# Altium footprint library PcbLib1.PcbLib: 98 footprints (part 3 of 7)
Each footprint in its own frame and in the unit in brackets; x right, y up, seen from the top. Pads: shape width x height; smd on the part's side, far side on the other; paste and mask are expansions set on the pad; w line width, h text height; cw(c..) or ccw(c..) is an arc to the next point about the centre after c.
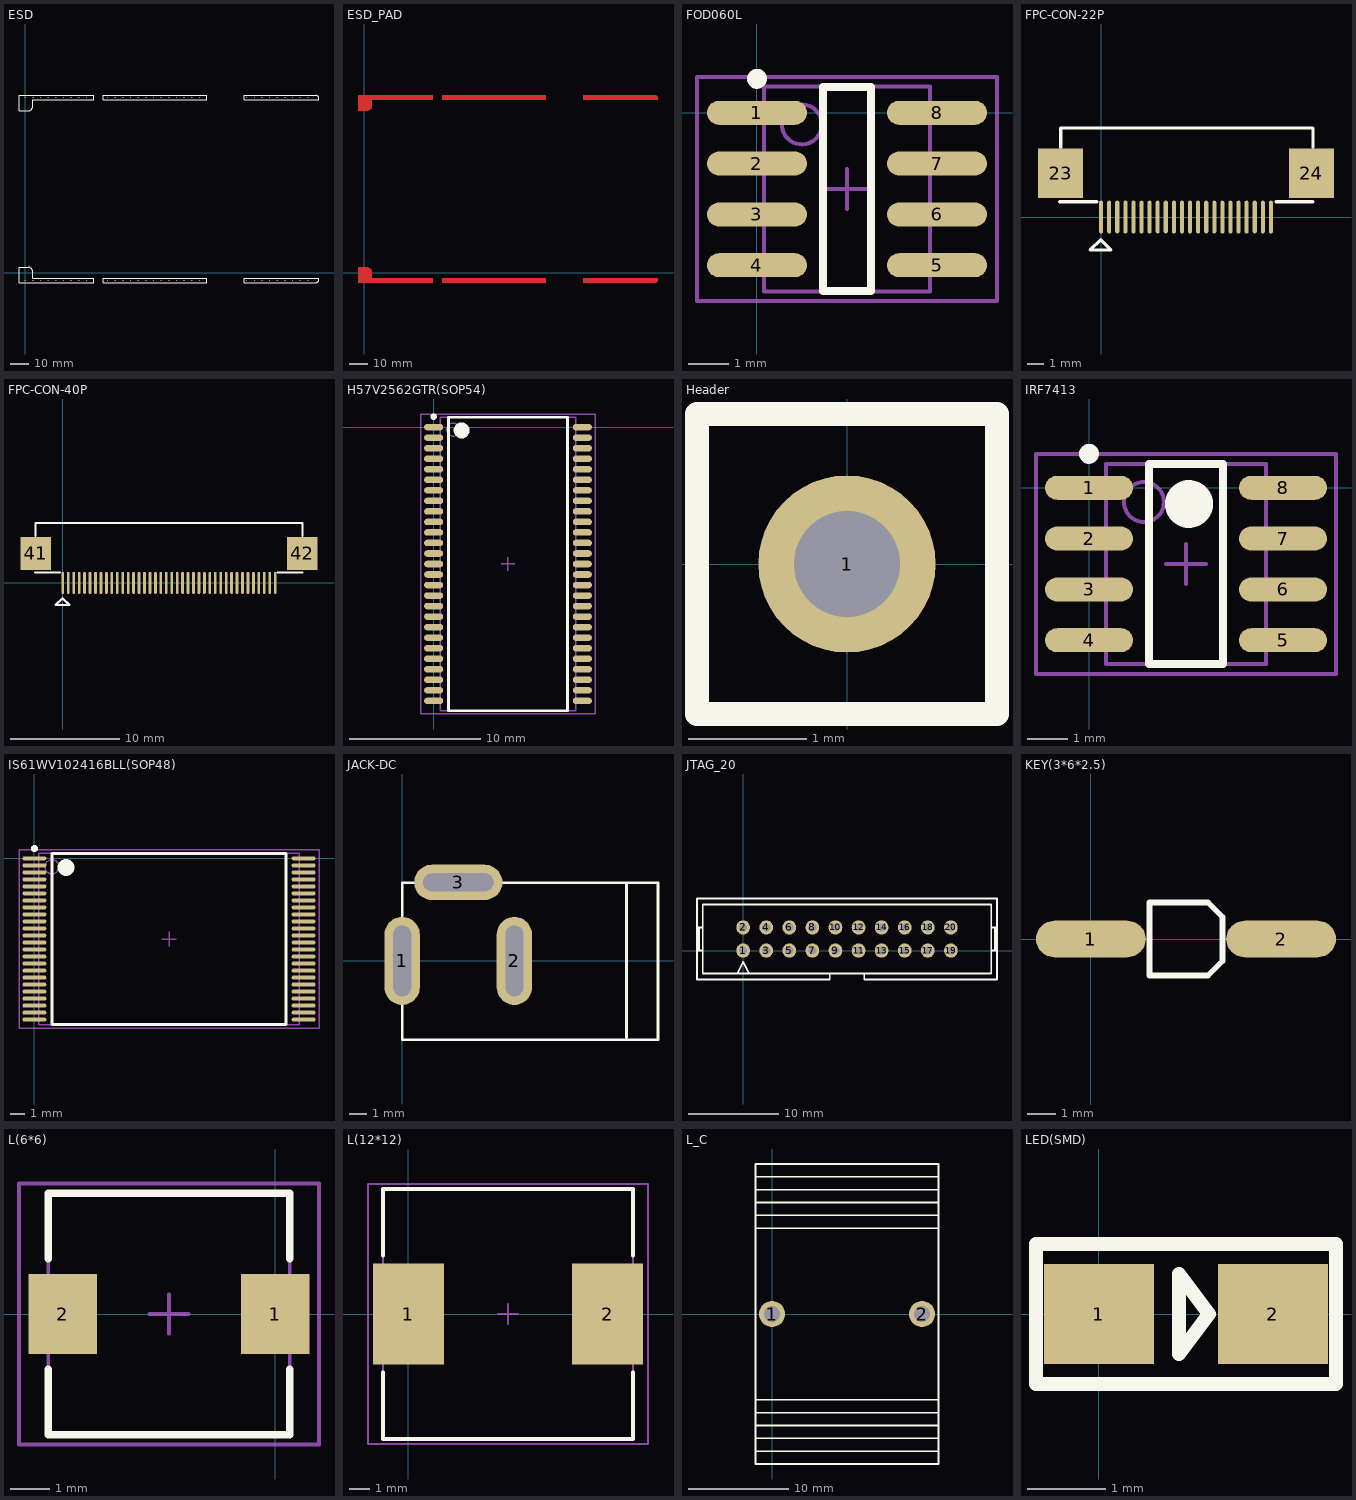
[diagram p2: the footprints below, top view; thin cyan lines are the x and y axes]

## ESD [mil]
pads (62):
  round 12 hole 8: 1(4635,-165) 1(4795,-165) 1(4955,-165) 1(5115,-165) 1(5275,-165) 1(5435,-165) 1(5595,-165) 1(5755,-165) 1(5915,-165) 2(1725,-165) 2(1885,-165) 2(2045,-165) 2(2205,-165) 2(2365,-165) 2(2525,-165) 2(2685,-165) 2(2845,-165) 2(3005,-165) 2(3165,-165) 2(3325,-165) 2(3485,-165) 2(3645,-165) 3(0,-165) 3(160,-165) 3(320,-165) 3(480,-165) 3(640,-165) 3(800,-165) 3(960,-165) 3(1120,-165) 3(1280,-165) 4(4635,3665) 4(4795,3665) 4(4955,3665) 4(5115,3665) 4(5275,3665) 4(5435,3665) 4(5595,3665) 4(5755,3665) 4(5915,3665) 5(1725,3665) 5(1885,3665) 5(2045,3665) 5(2205,3665) 5(2365,3665) 5(2525,3665) 5(2685,3665) 5(2845,3665) 5(3005,3665) 5(3165,3665) 5(3325,3665) 5(3485,3665) 5(3645,3665) 6(0,3665) 6(160,3665) 6(320,3665) 6(480,3665) 6(640,3665) 6(800,3665) 6(960,3665) 6(1120,3665) 6(1280,3665)
Top Overlay:
  lines w10: -130.71,-208.66 -130.71,112.05 59.45,112.05 cw(c59.06,12.44) 158.66,12.05 158.66,-120.08 1434.25,-120.08 1434.25,-208.5 ; -130.71,3708.66 -130.71,3387.95 59.45,3387.95 ccw(c59.06,3487.56) 158.66,3487.95 158.66,3620.08 1434.25,3620.08 1434.25,3708.5 ; -130.55,-208.66 1434.09,-208.66 ; -130.55,3708.66 1434.09,3708.66 ; 1631.1,-208.66 1631.1,-120.08 3796.46,-120.08 3796.46,-208.66 1631.1,-208.66 ; 1631.1,3620.08 1631.1,3708.66 3796.46,3708.66 3796.46,3620.08 1631.1,3620.08 ; 4583.86,-208.66 4583.86,-120.08 6148.82,-120.08 6148.82,-139.76 cw(c6079.92,-139.76) 6079.92,-208.66 4583.86,-208.66 ; 4583.86,3620.08 6148.82,3620.08 6148.82,3639.76 ccw(c6079.92,3639.76) 6079.92,3708.66 4583.86,3708.66 4583.86,3620.08

## ESD_PAD [mm]
Top Layer:
  region: 116.43,-5.3 116.43,-3.05 156.18,-3.05 156.188,-3.55 156.155,-3.893 156.055,-4.223 155.892,-4.527 155.673,-4.793 155.407,-5.012 155.103,-5.175 154.773,-5.275 154.43,-5.308 154.43,-5.3
  region: 41.43,-5.3 41.43,-3.05 96.43,-3.05 96.43,-5.3
  region: 4.03,-3.05 4.041,0.306 4.042,0.316 3.993,0.812 3.849,1.289 3.614,1.728 3.298,2.114 2.912,2.43 2.473,2.665 1.996,2.809 1.51,2.857 1.51,2.846 -3.32,2.846 -3.32,-5.3 36.426,-5.3 36.43,-5.296 36.43,-3.05
  region: 116.43,91.95 156.18,91.95 156.188,92.45 156.155,92.793 156.055,93.123 155.892,93.427 155.673,93.693 155.407,93.912 155.103,94.075 154.773,94.175 154.43,94.208 154.43,94.2 116.43,94.2
  region: 41.43,91.95 41.43,94.2 96.43,94.2 96.43,91.95
  region: -3.32,86.054 -3.32,94.2 36.426,94.2 36.43,94.196 36.43,91.95 4.03,91.95 4.041,88.594 4.042,88.584 3.993,88.088 3.849,87.611 3.614,87.172 3.298,86.786 2.912,86.47 2.473,86.235 1.996,86.091 1.51,86.043 1.51,86.054
Bottom Layer:
  region: -3.32,86.054 1.51,86.043 1.996,86.091 2.473,86.235 2.912,86.47 3.298,86.786 3.614,87.172 3.849,87.611 3.993,88.088 4.042,88.584 4.041,88.594 4.03,88.594 4.03,91.95 36.43,91.95 36.43,94.196 36.426,94.2 -3.32,94.2
  region: 41.43,91.95 96.43,91.95 96.43,94.2 41.43,94.2
  region: 116.43,91.95 156.18,91.95 156.188,92.45 156.155,92.793 156.055,93.123 155.892,93.427 155.673,93.693 155.407,93.912 155.103,94.075 154.773,94.175 154.43,94.208 154.43,94.2 116.43,94.2
  region: -3.316,-5.3 36.426,-5.3 36.43,-5.296 36.43,-3.05 4.03,-3.05 4.041,0.306 4.042,0.316 3.993,0.812 3.849,1.289 3.614,1.728 3.298,2.114 2.912,2.43 2.473,2.665 1.996,2.809 1.51,2.857 1.51,2.846 -3.32,2.846
  region: 116.43,-5.3 154.43,-5.308 154.773,-5.275 155.103,-5.175 155.407,-5.012 155.673,-4.793 155.892,-4.527 156.055,-4.223 156.155,-3.893 156.188,-3.55 156.18,-3.55 156.18,-3.05 116.43,-3.05
  region: 41.43,-5.3 41.43,-3.05 96.43,-3.05 96.43,-5.3
Top Solder:
  region: -3.32,-5.3 -3.32,2.846 1.51,2.857 1.996,2.809 2.473,2.665 2.912,2.43 3.298,2.114 3.614,1.728 3.849,1.289 3.993,0.812 4.042,0.316 4.041,0.306 4.03,0.306 4.03,-3.05 36.43,-3.05 36.43,-5.296 36.426,-5.3
  region: -3.32,86.054 1.51,86.043 1.996,86.091 2.473,86.235 2.912,86.47 3.298,86.786 3.614,87.172 3.849,87.611 3.993,88.088 4.042,88.584 4.041,88.594 4.03,88.594 4.03,91.95 36.43,91.95 36.43,94.196 36.426,94.2 -3.32,94.2
  region: 41.43,91.95 96.43,91.95 96.43,94.2 41.43,94.2
  region: 116.43,91.95 156.18,91.95 156.188,92.45 156.155,92.793 156.055,93.123 155.892,93.427 155.673,93.693 155.407,93.912 155.103,94.075 154.773,94.175 154.43,94.208 154.43,94.2 116.43,94.2
  region: 116.43,-5.3 154.43,-5.308 154.773,-5.275 155.103,-5.175 155.407,-5.012 155.673,-4.793 155.892,-4.527 156.055,-4.223 156.155,-3.893 156.188,-3.55 156.18,-3.55 156.18,-3.05 116.43,-3.05
  region: 41.43,-5.3 96.43,-5.3 96.43,-3.05 41.43,-3.05
Bottom Solder:
  region: -3.32,86.054 1.51,86.043 1.996,86.091 2.473,86.235 2.912,86.47 3.298,86.786 3.614,87.172 3.849,87.611 3.993,88.088 4.042,88.584 4.041,88.594 4.03,88.594 4.03,91.95 36.43,91.95 36.43,94.196 36.426,94.2 -3.32,94.2
  region: 41.43,91.95 96.43,91.95 96.43,94.2 41.43,94.2
  region: 116.43,91.95 156.18,91.95 156.188,92.45 156.155,92.793 156.055,93.123 155.892,93.427 155.673,93.693 155.407,93.912 155.103,94.075 154.773,94.175 154.43,94.208 154.43,94.2 116.43,94.2
  region: 116.43,-5.3 154.43,-5.308 154.773,-5.275 155.103,-5.175 155.407,-5.012 155.673,-4.793 155.892,-4.527 156.055,-4.223 156.155,-3.893 156.188,-3.55 156.18,-3.55 156.18,-3.05 116.43,-3.05
  region: 41.43,-5.3 96.43,-5.3 96.43,-3.05 41.43,-3.05
  region: -3.316,-5.3 36.426,-5.3 36.43,-5.296 36.43,-3.05 4.03,-3.05 4.041,0.306 4.042,0.316 3.993,0.812 3.849,1.289 3.614,1.728 3.298,2.114 2.912,2.43 2.473,2.665 1.996,2.809 1.51,2.857 1.51,2.846 -3.32,2.846

## FOD060L [mm] "SOIC, 8-Leads, Body 5.1x4.2mm (max), Pitch 1.27mm, IPC Medium Density"
height 3.63
pads (8):
  oval 2.5x0.6 smd: 1(0,0) 2(0,-1.27) 3(0,-2.54) 4(0,-3.81) 5(4.5,-3.81) 6(4.5,-2.54) 7(4.5,-1.27) 8(4.5,0)
Top Overlay:
  circle w0.25: c0,0.85 r0.125
  lines w0.2: 1.65,-4.455 1.65,0.645 2.85,0.645 2.85,-4.455 1.65,-4.455
Mechanical 13:
  circle w0.1: c1.12,-0.29 r0.5
  lines w0.1: 0.17,-4.47 0.17,0.66 4.33,0.66 4.33,-4.47 0.17,-4.47
Mechanical 15:
  lines w0.1: 1.75,-1.905 2.75,-1.905 ; 2.25,-2.405 2.25,-1.405 ; -1.5,-4.705 -1.5,0.895 6,0.895 6,-4.705 -1.5,-4.705
3D body: height 3.63, standoff 0.16, extent 0.17,-4.47 4.33,0.66

## FPC-CON-22P [mil]
pads (24):
  oval 10x80 smd: 1(0,0) 2(19.68,0) 3(39.37,0) 4(59.05,0) 5(78.74,0) 6(98.42,0) 7(118.11,0) 8(137.79,0) 9(157.48,0) 10(177.16,0) 11(196.85,0) 12(216.53,0) 13(236.22,0) 14(255.91,0) 15(275.59,0) 16(295.27,0) 17(314.96,0) 18(334.64,0) 19(354.33,0) 20(374.01,0) 21(393.7,0) 22(413.39,0)
  rect 110x120 smd: 23(-98.42,106.3) 24(511.81,106.3)
Top Overlay:
  lines w7.87: -100.39,37.4 -9.84,37.4 ; -98.42,169.29 -98.42,216.53 516.14,216.53 516.14,169.29 ; 425.59,37.4 516.14,37.4 ; -26.14,-80 23.86,-80 -1.14,-55 -26.14,-80

## FPC-CON-40P [mil]
pads (42):
  oval 10x80 smd: 1(0,0) 2(19.68,0) 3(39.37,0) 4(59.05,0) 5(78.74,0) 6(98.42,0) 7(118.11,0) 8(137.79,0) 9(157.48,0) 10(177.16,0) 11(196.85,0) 12(216.53,0) 13(236.22,0) 14(255.91,0) 15(275.59,0) 16(295.27,0) 17(314.96,0) 18(334.64,0) 19(354.33,0) 20(374.01,0) 21(393.7,0) 22(413.39,0) 23(433.07,0) 24(452.76,0) 25(472.44,0) 26(492.13,0) 27(511.81,0) 28(531.5,0) 29(551.18,0) 30(570.87,0) 31(590.55,0) 32(610.24,0) 33(629.92,0) 34(649.61,0) 35(669.29,0) 36(688.98,0) 37(708.66,0) 38(728.35,0) 39(748.03,0) 40(767.72,0)
  rect 110x120 smd: 41(-98.42,106.3) 42(866.14,106.3)
Top Overlay:
  lines w7.87: -100.39,37.4 -9.84,37.4 ; -98.42,169.29 -98.42,216.53 866.14,216.53 866.14,169.29 ; 775.59,37.4 866.14,37.4 ; -26.14,-80 23.86,-80 -1.14,-55 -26.14,-80

## H57V2562GTR(SOP54) [mm] "TSOP, 54-Leads, Body 22.3x10.3mm (max), Pitch 0.80mm, IPC Medium Density"
height 1.194
pads (54):
  oval 1.45x0.5 smd: 1(0,0) 2(0,-0.8) 3(0,-1.6) 4(0,-2.4) 5(0,-3.2) 6(0,-4) 7(0,-4.8) 8(0,-5.6) 9(0,-6.4) 10(0,-7.2) 11(0,-8) 12(0,-8.8) 13(0,-9.6) 14(0,-10.4) 15(0,-11.2) 16(0,-12) 17(0,-12.8) 18(0,-13.6) 19(0,-14.4) 20(0,-15.2) 21(0,-16) 22(0,-16.8) 23(0,-17.6) 24(0,-18.4) 25(0,-19.2) 26(0,-20) 27(0,-20.8) 28(11.3,-20.8) 29(11.3,-20) 30(11.3,-19.2) 31(11.3,-18.4) 32(11.3,-17.6) 33(11.3,-16.8) 34(11.3,-16) 35(11.3,-15.2) 36(11.3,-14.4) 37(11.3,-13.6) 38(11.3,-12.8) 39(11.3,-12) 40(11.3,-11.2) 41(11.3,-10.4) 42(11.3,-9.6) 43(11.3,-8.8) 44(11.3,-8) 45(11.3,-7.2) 46(11.3,-6.4) 47(11.3,-5.6) 48(11.3,-4.8) 49(11.3,-4) 50(11.3,-3.2) 51(11.3,-2.4) 52(11.3,-1.6) 53(11.3,-0.8) 54(11.3,0)
Top Overlay:
  circle w0.25: c0,0.8 r0.125
  circle w0.6: c2.125,-0.25 r0.3
  lines w0.2: 1.125,-21.55 1.125,0.75 10.175,0.75 10.175,-21.55 1.125,-21.55
Mechanical 13:
  circle w0.1: c1.47,-0.185 r0.5
  lines w0.1: 0.52,-21.565 0.52,0.765 10.78,0.765 10.78,-21.565 0.52,-21.565
Mechanical 15:
  lines w0.1: 5.15,-10.4 6.15,-10.4 ; 5.65,-10.9 5.65,-9.9 ; -0.975,-21.8 -0.975,1 12.275,1 12.275,-21.8 -0.975,-21.8
3D body: height 1.19, standoff 0.05, extent 0.52,-21.565 10.78,0.765

## Header [mm]
pads (1):
  round 1.5 hole 0.9: 1(0,0)
Top Overlay:
  lines w0.2: -1.27,-1.27 -1.27,1.27 1.27,1.27 1.27,-1.27 -1.27,-1.27

## IRF7413 [mm] "SOP, 8-Leads, Body 5.0x4.0mm (max), Pitch 1.27mm, IPC Medium Density"
height 1.75
pads (8):
  oval 2.2x0.6 smd: 1(0,0) 2(0,-1.27) 3(0,-2.54) 4(0,-3.81) 5(4.85,-3.81) 6(4.85,-2.54) 7(4.85,-1.27) 8(4.85,0)
Top Overlay:
  circle w0.25: c0,0.85 r0.125
  circle w0.6: c2.5,-0.405 r0.3
  lines w0.2: 1.5,-4.405 1.5,0.595 3.35,0.595 3.35,-4.405 1.5,-4.405
Mechanical 13:
  circle w0.1: c1.375,-0.355 r0.5
  lines w0.1: 0.425,-4.405 0.425,0.595 4.425,0.595 4.425,-4.405 0.425,-4.405
Mechanical 15:
  lines w0.1: 1.925,-1.905 2.925,-1.905 ; 2.425,-2.405 2.425,-1.405 ; -1.325,-4.655 -1.325,0.845 6.175,0.845 6.175,-4.655 -1.325,-4.655
3D body: height 1.75, standoff 0.1, extent 0.425,-4.405 4.425,0.595

## IS61WV102416BLL(SOP48) [mm] "TSSOP, 48-Leads, Body 12.2x18.6mm (max), Pitch 0.50mm, IPC Medium Density"
height 1.2
pads (48):
  oval 1.7x0.3 smd: 1(0,0) 2(0,-0.5) 3(0,-1) 4(0,-1.5) 5(0,-2) 6(0,-2.5) 7(0,-3) 8(0,-3.5) 9(0,-4) 10(0,-4.5) 11(0,-5) 12(0,-5.5) 13(0,-6) 14(0,-6.5) 15(0,-7) 16(0,-7.5) 17(0,-8) 18(0,-8.5) 19(0,-9) 20(0,-9.5) 21(0,-10) 22(0,-10.5) 23(0,-11) 24(0,-11.5) 25(19.2,-11.5) 26(19.2,-11) 27(19.2,-10.5) 28(19.2,-10) 29(19.2,-9.5) 30(19.2,-9) 31(19.2,-8.5) 32(19.2,-8) 33(19.2,-7.5) 34(19.2,-7) 35(19.2,-6.5) 36(19.2,-6) 37(19.2,-5.5) 38(19.2,-5) 39(19.2,-4.5) 40(19.2,-4) 41(19.2,-3.5) 42(19.2,-3) 43(19.2,-2.5) 44(19.2,-2) 45(19.2,-1.5) 46(19.2,-1) 47(19.2,-0.5) 48(19.2,0)
Top Overlay:
  circle w0.6: c2.25,-0.65 r0.3
  circle w0.25: c0,0.7 r0.125
  lines w0.2: 1.25,-11.85 17.95,-11.85 17.95,0.35 1.25,0.35 1.25,-11.85
Mechanical 13:
  circle w0.1: c1.25,-0.6 r0.5
  lines w0.1: 0.3,-11.85 18.9,-11.85 18.9,0.35 0.3,0.35 0.3,-11.85
Mechanical 15:
  lines w0.1: 9.1,-5.75 10.1,-5.75 ; 9.6,-6.25 9.6,-5.25 ; -1.1,-12.1 20.3,-12.1 20.3,0.6 -1.1,0.6 -1.1,-12.1
3D body: height 1.2, standoff 0.1, extent 0.3,-11.85 18.9,0.35

## JACK-DC [mm]
pads (3):
  oval 2x5 hole 1 slot 4 at 90 deg: 1(0,0) 2(6.35,0)
  oval 5x2 hole 1 slot 4 at 0 deg: 3(3.175,4.445)
Top Overlay:
  lines w0.152: 12.7,-4.318 12.7,4.318 ; 0,-4.47 0,4.42 14.478,4.42 14.478,-4.47 0,-4.47

## JTAG_20 [mm]
pads (20):
  oval 1.5x1.575 hole 0.9: 1(0,0) 2(0,2.54) 3(2.54,0) 4(2.54,2.54) 5(5.08,0) 6(5.08,2.54) 7(7.62,0) 8(7.62,2.54) 9(10.16,0) 10(10.16,2.54) 11(12.7,0) 12(12.7,2.54) 13(15.24,0) 14(15.24,2.54) 15(17.78,0) 16(17.78,2.54) 17(20.32,0) 18(20.32,2.54) 19(22.86,0) 20(22.86,2.54)
Top Overlay:
  lines w0.203: -5.08,0 -4.445,0 ; -5.08,2.54 -4.445,2.54 ; -4.868,0 -4.868,2.54 ; -0.635,-2.54 0,-1.27 0.635,-2.54 ; 2.805,-3.175 9.525,-3.175 9.525,-2.54 ; 3.175,-3.175 -5.08,-3.175 -5.08,5.715 27.94,5.715 27.94,-3.175 19.685,-3.175 13.335,-3.175 13.335,-2.54 ; 27.305,0 27.94,0 ; 27.305,2.54 27.94,2.54 ; 27.728,0 27.728,2.54 ; 9.525,-2.54 -4.445,-2.54 -4.445,5.08 27.305,5.08 27.305,-2.54 13.335,-2.54 ; 9.525,-2.54 13.335,-2.54

## KEY(3*6*2.5) [mil]
pads (2):
  oval 150x50 smd: 1(0,0) 2(260,0)
Top Overlay:
  lines w7.87: 160,-50 180,-30 ; 160,-50 80,-50 80,50 160,50 180,30 180,-30 ; 160,-50 180,-30

## L(6*6) [mm]
pads (2):
  rect 1.75x2.05 smd: 1(0,0) 2(-5.45,0)
Top Overlay:
  lines w0.2: -5.825,-1.425 -5.825,-3.1 0.375,-3.1 0.375,-1.425 ; -5.825,1.425 -5.825,3.1 0.375,3.1 0.375,1.425
Mechanical 13:
  lines w0.1: -5.825,-3.1 0.375,-3.1 0.375,3.1 -5.825,3.1 -5.825,-3.1
Mechanical 15:
  lines w0.1: -3.225,0 -2.225,0 ; -2.725,-0.5 -2.725,0.5 ; -6.575,-3.35 1.125,-3.35 1.125,3.35 -6.575,3.35 -6.575,-3.35
3D body: height 3, standoff 0, extent -5.825,-3.1 0.375,3.1

## L(12*12) [mm] "Precision Wire Wound Inductor, 2-Leads, Body 12.0x12.0mm, IPC Medium Density"
height 8
pads (2):
  rect 3.55x5.05 smd: 1(0,0) 2(9.95,0)
Top Overlay:
  lines w0.2: -1.275,-2.925 -1.275,-6.25 11.225,-6.25 11.225,-2.925 ; -1.275,2.925 -1.275,6.25 11.225,6.25 11.225,2.925
Mechanical 13:
  lines w0.1: -1.275,-6.25 11.225,-6.25 11.225,6.25 -1.275,6.25 -1.275,-6.25
Mechanical 15:
  lines w0.1: 4.475,0 5.475,0 ; 4.975,-0.5 4.975,0.5 ; -2.025,-6.5 11.975,-6.5 11.975,6.5 -2.025,6.5 -2.025,-6.5
3D body: height 8, standoff 0, extent -1.275,-6.25 11.225,6.25

## L_C [mm]
pads (2):
  round 2.6 hole 1.6: 1(0,0) 2(15,0)
Top Overlay:
  lines w0.178: -1.651,-13.716 16.637,-13.716 ; -1.651,-12.432 16.637,-12.432 ; -1.651,-11.148 16.637,-11.148 ; -1.651,-9.864 16.637,-9.864 ; -1.651,-8.58 16.637,-8.58 ; -1.651,8.58 16.637,8.58 ; -1.651,9.864 16.637,9.864 ; -1.651,11.148 16.637,11.148 ; -1.651,12.432 16.637,12.432 ; -1.651,13.716 16.637,13.716 ; 0,-15 15,-15 ; 0,-13.716 15,-13.716 ; 0.014,-12.432 14.986,-12.432 ; 0.028,-11.148 14.972,-11.148 ; 0.042,-9.864 14.915,-9.864 ; 0.056,-8.58 15,-8.58 ; -1.651,-15 -1.651,0 -1.651,15 16.637,15 16.637,0 16.637,-15 -1.651,-15

## LED(SMD) [mm]
pads (2):
  rect 1.4x1.27 smd: 1(0,0) 2(2.21,0)
Top Overlay:
  lines w0.178: 3.011,0.889 3.01,0.889 ; 3.01,0.889 -0.8,0.889 -0.8,0 -0.8,-0.889 3.01,-0.889 3.01,0.889 ; 1.016,-0.508 1.397,0 1.016,0.508 1.016,-0.508